# Altium schematic symbol library SFT_V4.SchLib: 92 symbols (part 2 of 2)
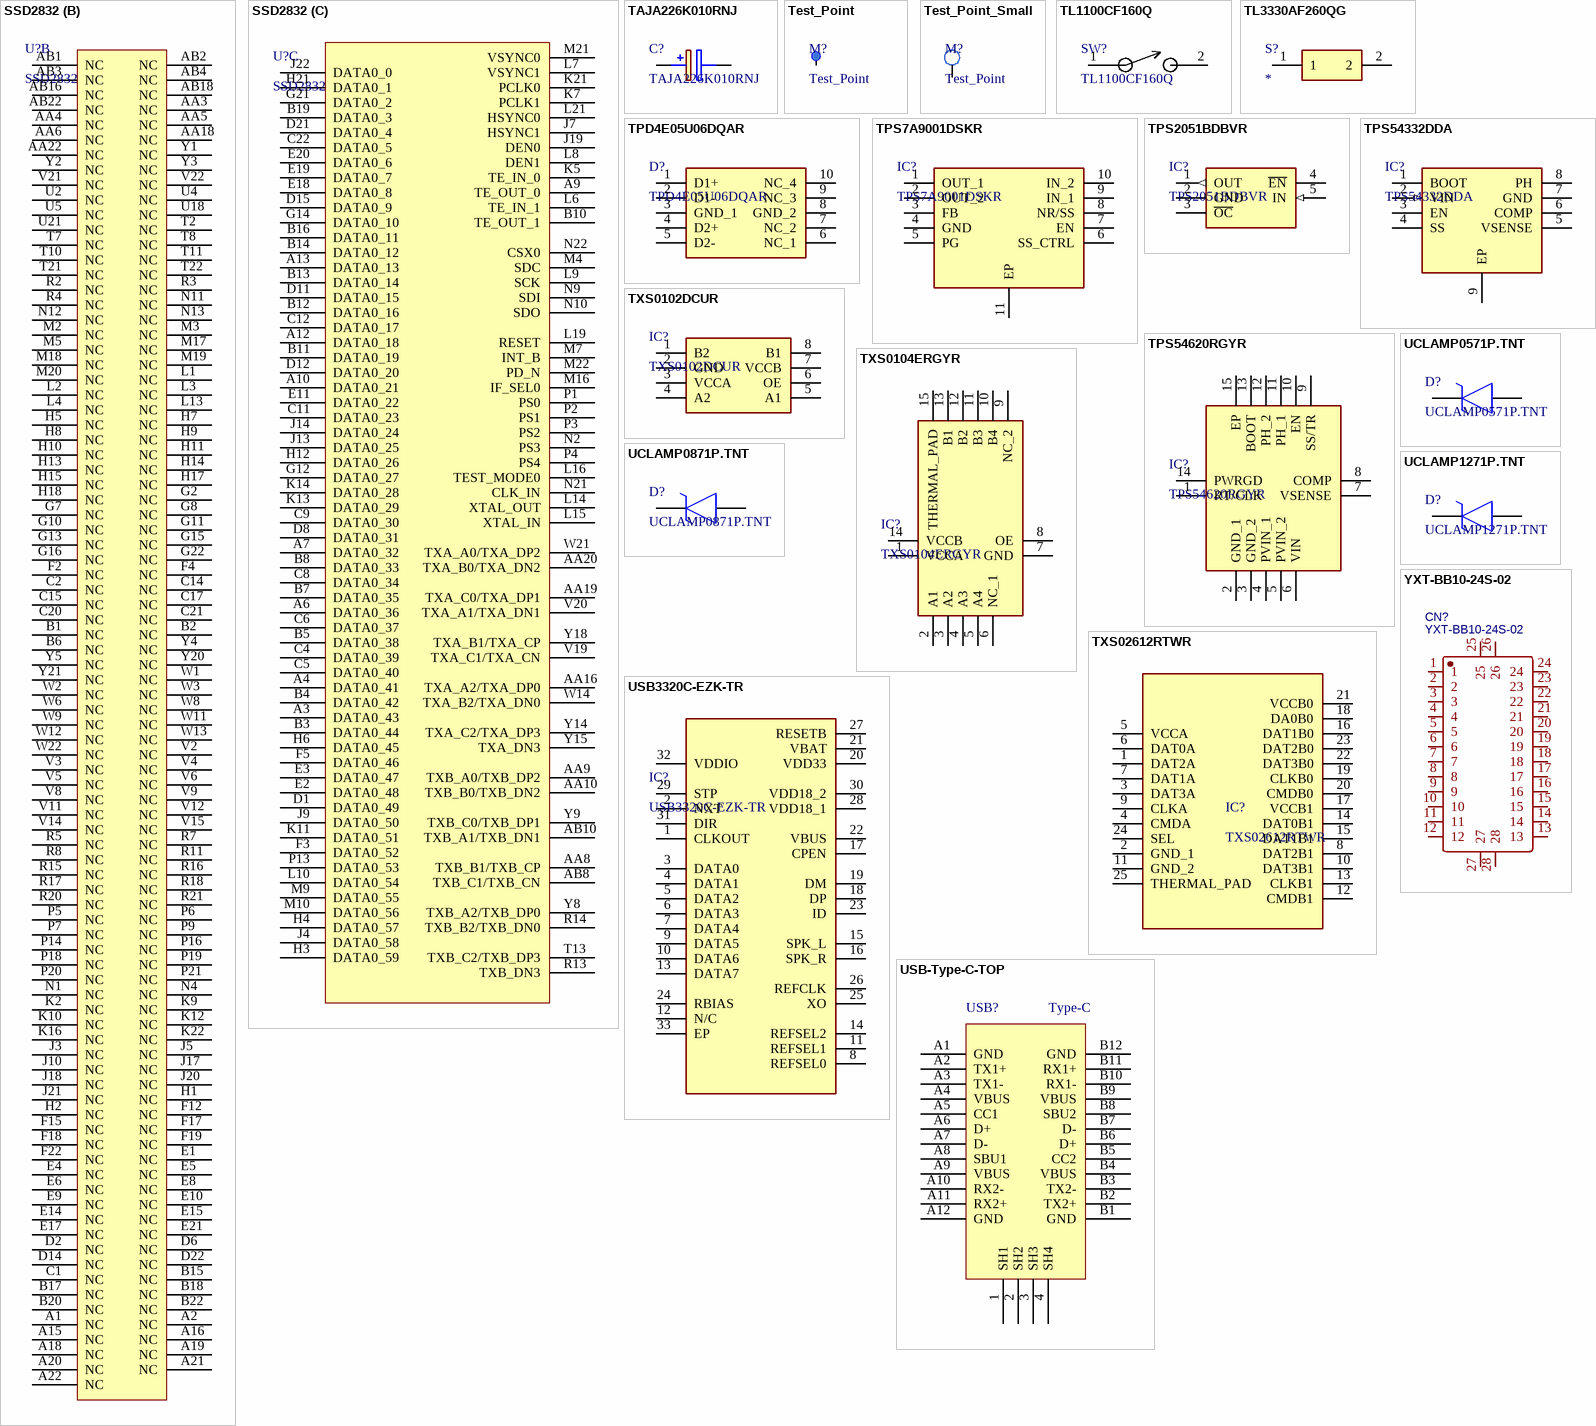
[diagram p4: symbols SSD2832 to YXT-BB10-24S-02]

## TXS0102DCUR
designator IC?
Integrated Circuit; Manufacturer_Name: Texas Instruments; Datasheet Link: http://www.farnell.com/datasheets/2024443.pdf; Height: 0.9mm; Manufacturer_Part_Number: TXS0102DCUR; Mouser Part Number: 595-TXS0102DCUR; Mouser Price/Stock: https://www.mouser.co.uk/ProductDetail/Texas-Instruments/TXS0102DCUR?qs=dB0LedT%252BmmBcQ3I%2Fs9XEDA%3D%3D; Arrow Part Number: TXS0102DCUR; Arrow Price/Stock: https://www.arrow.com/en/products/txs0102dcur/texas-instruments
footprint SOP50P310X90-8N
pins: 1 B2, 2 GND, 3 VCCA, 4 A2, 5 A1, 6 OE, 7 VCCB, 8 B1

## TXS0104ERGYR
designator IC?
Integrated Circuit; Manufacturer_Name: Texas Instruments; Datasheet Link: http://www.ti.com/general/docs/lit/getliterature.tsp?genericPartNumber=TXS0104E&&fileType=pdf; Manufacturer_Part_Number: TXS0104ERGYR; Mouser Part Number: 595-TXS0104ERGYR; Mouser Price/Stock: https://www.mouser.co.uk/ProductDetail/Texas-Instruments/TXS0104ERGYR?qs=7kv20MEVUliW1hYoQAOHUw%3D%3D; Arrow Part Number: TXS0104ERGYR; Arrow Price/Stock: https://www.arrow.com/en/products/txs0104ergyr/texas-instruments?region=nac
footprint RGY(S-PVQFN-N14)
pins: 1 VCCA, 2 A1, 3 A2, 4 A3, 5 A4, 6 NC_1, 7 GND, 8 OE, 9 NC_2, 10 B4, 11 B3, 12 B2, 13 B1, 14 VCCB, 15 THERMAL_PAD

## TXS02612RTWR
designator IC?
Integrated Circuit; Manufacturer_Name: Texas Instruments; Datasheet Link: http://www.ti.com/lit/gpn/txs02612; Height: 0.8mm; Manufacturer_Part_Number: TXS02612RTWR; Mouser Part Number: 595-TXS02612RTWR; Mouser Price/Stock: https://www.mouser.co.uk/ProductDetail/Texas-Instruments/TXS02612RTWR?qs=dqESbKqT1jaNFKC1R4M7hw%3D%3D; Arrow Part Number: TXS02612RTWR; Arrow Price/Stock: https://www.arrow.com/en/products/txs02612rtwr/texas-instruments?region=nac
footprint QFN50P400X400X80-25N-D
pins: 1 DAT2A, 2 GND_1, 3 DAT3A, 4 CMDA, 5 VCCA, 6 DAT0A, 7 DAT1A, 8 DAT2B1, 9 CLKA, 10 DAT3B1, 11 GND_2, 12 CMDB1, 13 CLKB1, 14 DAT0B1, 15 DAT1B1, 16 DAT1B0, 17 VCCB1, 18 DA0B0, 19 CLKB0, 20 CMDB0, 21 VCCB0, 22 DAT3B0, 23 DAT2B0, 24 SEL, 25 THERMAL_PAD

## UCLAMP0571P.TNT
designator D?
TVS Diode (Uni-directional); Manufacturer_Name: SEMTECH; Datasheet Link: https://www.mouser.com/datasheet/2/761/uClampxx71P-1360280.pdf; Height: 0.55mm; Manufacturer_Part_Number: UCLAMP0571P.TNT; Mouser Part Number: 947-UCLAMP0571P.TNT; Mouser Price/Stock: https://www.mouser.co.uk/ProductDetail/Semtech/UCLAMP0571PTNT?qs=rBWM4%252BvDhIdABRCK070WwQ%3D%3D; Arrow Part Number: UCLAMP0571P.TNT; Arrow Price/Stock: https://www.arrow.com/en/products/uclamp0571p.tnt/semtech
footprint DIOC1610X55N
pins: 1 K, 2 A

## UCLAMP0871P.TNT
designator D?
TVS Diode (Uni-directional); Manufacturer_Name: SEMTECH; Datasheet Link: https://semtech.my.salesforce.com/sfc/p/#E0000000JelG/a/440000001MY4/4q79IDr7W9WtGQMBRZopuUISXo3A3gu9ZBYcacaouH0; Height: 0.55mm; Manufacturer_Part_Number: UCLAMP0871P.TNT; Mouser Part Number: 947-UCLAMP0871P.TNT; Mouser Price/Stock: https://www.mouser.co.uk/ProductDetail/Semtech/UCLAMP0871PTNT?qs=rBWM4%252BvDhId7pkyDo6HTVA%3D%3D
footprint UCLAMP0871PTNT
pins: 1 K, 2 A

## UCLAMP1271P.TNT
designator D?
TVS Diode (Uni-directional); Manufacturer_Name: SEMTECH; Datasheet Link: https://datasheet.lcsc.com/szlcsc/SEMTECH-uClamp1271P-TNT_C95246.pdf; Height: 0.62mm; Manufacturer_Part_Number: UCLAMP1271P.TNT; Mouser Part Number: 947-UCLAMP1271P.TNT; Mouser Price/Stock: https://www.mouser.co.uk/ProductDetail/Semtech/UCLAMP1271PTNT?qs=rBWM4%252BvDhIda2sBCQLLoiQ%3D%3D
footprint UCLAMP1271PTNT
pins: 1 K, 2 A

## USB3320C-EZK-TR
designator IC?
Integrated Circuit; Manufacturer_Name: Microchip; Datasheet Link: http://ww1.microchip.com/downloads/en/DeviceDoc/00001792B.pdf; Height: 1mm; Manufacturer_Part_Number: USB3320C-EZK-TR; Mouser Part Number: 886-USB3320C-EZK-TR; Mouser Price/Stock: https://www.mouser.co.uk/ProductDetail/Microchip-Technology/USB3320C-EZK-TR?qs=pA5MXup5wxFLWWzXkMzUXA%3D%3D; Arrow Part Number: USB3320C-EZK-TR; Arrow Price/Stock: https://www.arrow.com/en/products/usb3320c-ezk-tr/microchip-technology?region=nac
footprint QFN50P500X500X100-33N-D
pins: 1 CLKOUT, 2 NXT, 3 DATA0, 4 DATA1, 5 DATA2, 6 DATA3, 7 DATA4, 8 REFSEL0, 9 DATA5, 10 DATA6, 11 REFSEL1, 12 N/C, 13 DATA7, 14 REFSEL2, 15 SPK_L, 16 SPK_R, 17 CPEN, 18 DP, 19 DM, 20 VDD33, 21 VBAT, 22 VBUS, 23 ID, 24 RBIAS, 25 XO, 26 REFCLK, 27 RESETB, 28 VDD18_1, 29 STP, 30 VDD18_2, 31 DIR, 32 VDDIO, 33 EP

## USB-Type-C-TOP
designator USB?, comment Type-C
footprint Type-C-TOP
pins: 1 SH1, 2 SH2, 3 SH3, 4 SH4, A1 GND, A2 TX1+, A3 TX1-, A4 VBUS, A5 CC1, A6 D+, A7 D-, A8 SBU1, A9 VBUS, A10 RX2-, A11 RX2+, A12 GND, B1 GND, B2 TX2+, B3 TX2-, B4 VBUS, B5 CC2, B6 D+, B7 D-, B8 SBU2, B9 VBUS, B10 RX1-, B11 RX1+, B12 GND

## YXT-BB10-24S-02
designator CN?
BOM_Manufacturer: YXT(益鑫通）; Contributor: LCSC; BOM_Supplier: LCSC; BOM_Supplier Part: C2763965; BOM_Manufacturer Part: YXT-BB10-24S-02; BOM_JLCPCB Part Class: Extended Part; spicePre: C; spiceSymbolName: YXT-BB10-24S-02
footprint CONN-SMD_YXT-BB10-24S-02
pins: 1, 2, 3, 4, 5, 6, 7, 8, 9, 10, 11, 12, 13, 14, 15, 16, 17, 18, 19, 20, 21, 22, 23, 24, 25, 26, 27, 28